# Altium schematic symbol library ECWFE2W225KA.SchLib: 1 symbol
Pins are listed as number, name and electrical type; pins without a type are passive.

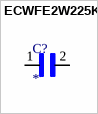
[diagram p0: symbol ECWFE2W225KA]

## ECWFE2W225KA
designator C?
MP: ECWFE2W225KA; Price: None; Value: *; Package: None; Availability: Unavailable
footprint CAPRR1500W80L1750T1000H1550
pins: 1, 2